# Altium footprint library SMD Sensors.PcbLib: 4 footprints
Each footprint in its own frame and in the unit in brackets; x right, y up, seen from the top. Pads: shape width x height; smd on the part's side, far side on the other; paste and mask are expansions set on the pad; w line width, h text height; cw(c..) or ccw(c..) is an arc to the next point about the centre after c.
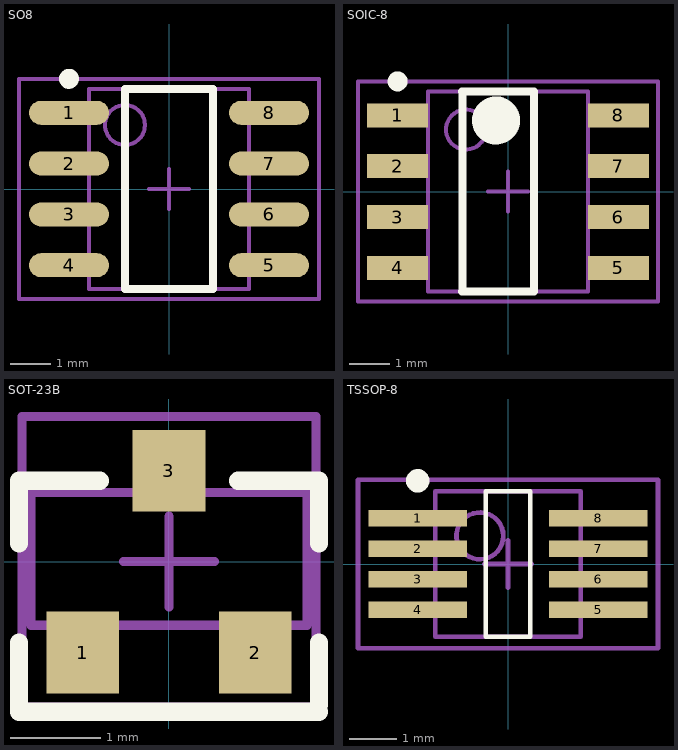
[diagram p0: the footprints below, top view; thin cyan lines are the x and y axes]

## SO8 [mm] "SO8/SOT96-1, 8-Pin Plastic Small Outline Integrated Circuit 1.27 mm Pitch, IPC Medium Density"
height 1.75
pads (8):
  oval 2x0.6 smd: 1(-2.5,1.905) 2(-2.5,0.635) 3(-2.5,-0.635) 4(-2.5,-1.905) 5(2.5,-1.905) 6(2.5,-0.635) 7(2.5,0.635) 8(2.5,1.905)
Top Overlay:
  circle w0.25: c-2.5,2.755 r0.125
  lines w0.2: -1.1,-2.5 1.1,-2.5 1.1,2.5 -1.1,2.5 -1.1,-2.5
Mechanical 13:
  circle w0.1: c-1.1,1.6 r0.5
  lines w0.1: -2,-2.5 2,-2.5 2,2.5 -2,2.5 -2,-2.5
Mechanical 15:
  lines w0.1: -0.5,0 0.5,0 ; 0,-0.5 0,0.5 ; -3.75,-2.75 3.75,-2.75 3.75,2.75 -3.75,2.75 -3.75,-2.75
3D body "SO8.STEP": height 1.7, standoff 0, extent -3,-2.45 3,2.45

## SOIC-8 [mm] "SOIC, 8-Leads, Body 5,0x4,0mm (max), Pitch 1,27mm, IPC Medium Density"
height 1.75
pads (8):
  rect 1.52x0.6 smd: 1(-2.76,1.905) 2(-2.76,0.635) 3(-2.76,-0.635) 4(-2.76,-1.905) 5(2.76,-1.905) 6(2.76,-0.635) 7(2.76,0.635) 8(2.76,1.905)
Top Overlay:
  circle w0.25: c-2.76,2.755 r0.125
  circle w0.6: c-0.3,1.778 r0.3
  lines w0.2: -1.154,-2.5 0.646,-2.5 0.646,2.5 -1.154,2.5 ; -1.143,-2.5 -1.143,2.5
Mechanical 13:
  circle w0.1: c-1.05,1.55 r0.5
  lines w0.1: -2,-2.5 -2,2.5 2,2.5 2,-2.5 -2,-2.5
Mechanical 15:
  lines w0.1: -0.5,0 0.5,0 ; 0,-0.5 0,0.5 ; -3.75,-2.75 -3.75,2.75 3.75,2.75 3.75,-2.75 -3.75,-2.75
3D body "SO8.STEP": height 1.7, standoff 0, extent -3,-2.45 3,2.45

## SOT-23B [mm] "SOT23, 3-Leads, Body 3,0x2,6mm (max), Pitch 0,95mm, IPC High Density"
height 1.12
pads (3):
  rect 0.8x0.9 smd: 1(-0.95,-1) 2(0.95,-1) 3(0,1)
Top Overlay:
  lines w0.2: -1.651,-1.651 -1.651,-0.889 ; -1.651,0.203 -1.651,0.889 ; 1.651,-1.575 1.651,-0.889
  lines w0.203: -1.651,-1.651 1.651,-1.651 ; -1.651,0.889 -0.762,0.889 ; 0.762,0.889 1.651,0.889 1.651,0.203
Mechanical 13:
  lines w0.1: -1.52,0.7 -1.52,-0.7 1.52,-0.7 1.52,0.7
  lines w0.102: -1.524,0.762 1.524,0.762
Mechanical 15:
  lines w0.1: -0.5,0 0.5,0 ; 0,-0.5 0,0.5 ; -1.62,-1.6 1.62,-1.6 1.62,1.6 -1.62,1.6 -1.62,-1.6
3D body "sot-23-3-microchip.STEP": height 1.14, standoff -0.08, extent -1.43,-1.221 1.47,1.221

## TSSOP-8 [mm] "TSOP, 8-Leads, Body 3,1x3,1mm (max), Pitch 0,65mm, IPC Medium Density"
height 1.1
pads (8):
  rect 2.1x0.35 smd: 1(-1.925,0.975) 2(-1.925,0.325) 3(-1.925,-0.325) 4(-1.925,-0.975) 5(1.925,-0.975) 6(1.925,-0.325) 7(1.925,0.325) 8(1.925,0.975)
Top Overlay:
  circle w0.25: c-1.925,1.775 r0.125
  lines w0.1: -0.475,-1.55 0.475,-1.55 0.475,1.55 -0.475,1.55 -0.475,-1.55
Mechanical 13:
  circle w0.1: c-0.6,0.6 r0.5
  lines w0.1: -1.55,-1.55 1.55,-1.55 1.55,1.55 -1.55,1.55 -1.55,-1.55
Mechanical 15:
  lines w0.1: -0.5,0 0.5,0 ; 0,-0.5 0,0.5 ; -3.2,-1.8 3.2,-1.8 3.2,1.8 -3.2,1.8 -3.2,-1.8
3D body "TSSOP-8 3_1x3_1.STEP": height 1.01, standoff -0.09, extent -2.5,-1.55 2.5,1.55